# Altium schematic symbol library Term,Block,3 Pin,3.81mm,Thru.Schlib: 1 symbol
Pins are listed as number, name and electrical type; pins without a type are passive.

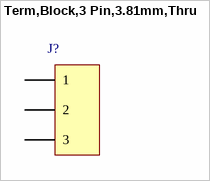
[diagram p0: symbol Term,Block,3 Pin,3.81mm,Thru]

## Term,Block,3 Pin,3.81mm,Thru
designator J?
pins: 1, 2, 3